# EAGLE library part MYRRA472XX (library Simon's Libraries)
AC/DC PCB Mount Power Supply (PSU), ITE, 2 Output, 4 W, 5 V, 400 mA, 12 V Farnell <https://uk.farnell.com/myrra/47257/power-supply-4w-5vdc-12vdc-reg/dp/1825804>
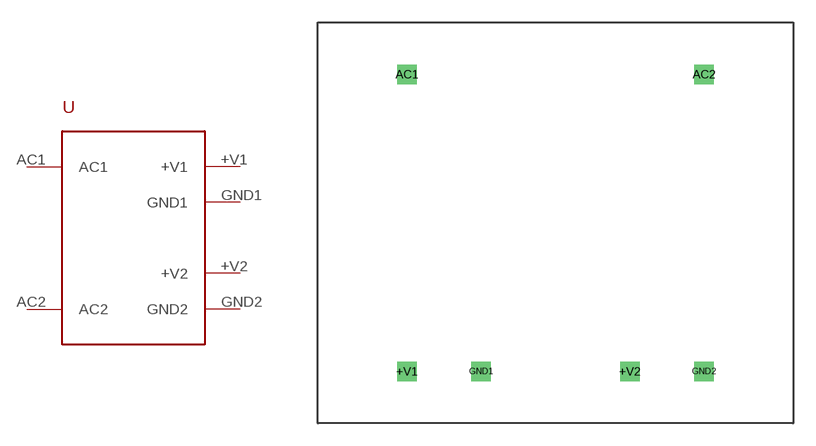
[diagram p0: symbol with the pads of MYRRA472XX; footprint MYRRA472XX]

Designator prefix -

## MYRRA472XX  [MYRRA472XX]
+V1  +V1
+V2  +V2
AC1  AC1
AC2  AC2
GND1  GND1
GND2  GND2

## Footprint MYRRA472XX (pad centres in mm)
drill 0.8 square: +V1 -10,-10; +V2 5,-10; AC1 -10,10; AC2 10,10; GND1 -5,-10; GND2 10,-10